# EAGLE library part DAC8814ADAPTER (library board)
Digital-to-Analog Converter on DIL28 adapter board. Based on components: ic-package.lbr/DIL28 element14/Texas Instruments_By_element14_Batch_1.lbr/DAC8814IBDBT
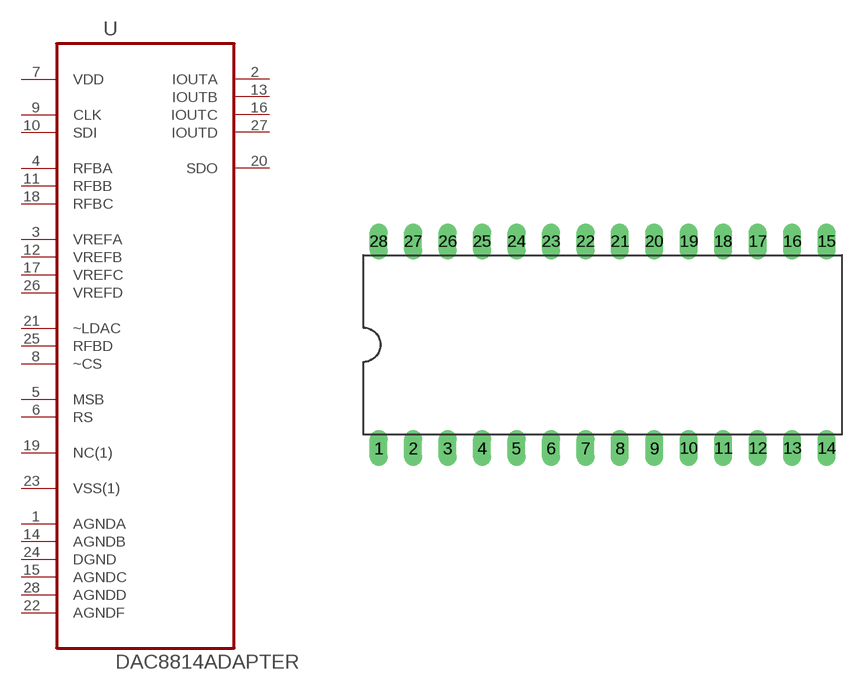
[diagram p0: symbol with the pads of DIL28-6; footprint DIL28-6]

Designator prefix U

## DAC8814ADAPTER  [DIL28-6]
1  AGNDA  pas
2  IOUTA  out
3  VREFA  in
4  RFBA  in
5  MSB  in
6  RS  in
7  VDD  pwr
8  ~CS  in
9  CLK  in
10  SDI  in
11  RFBB  in
12  VREFB  in
13  IOUTB  out
14  AGNDB  pas
15  AGNDC  pas
16  IOUTC  out
17  VREFC  in
18  RFBC  in
19  NC(1)  nc
20  SDO  out
21  ~LDAC  in
22  AGNDF  pas
23  VSS(1)  pas
24  DGND  pas
25  RFBD  in
26  VREFD  in
27  IOUTD  out
28  AGNDD  pas

## Footprint DIL28-6 (pad centres in mm)
Dual In Line Package 0.6 inch
drill 0.813 long: 1 -16.51,-7.62; 2 -13.97,-7.62; 3 -11.43,-7.62; 4 -8.89,-7.62; 5 -6.35,-7.62; 6 -3.81,-7.62; 7 -1.27,-7.62; 8 1.27,-7.62; 9 3.81,-7.62; 10 6.35,-7.62; 11 8.89,-7.62; 12 11.43,-7.62; 13 13.97,-7.62; 14 16.51,-7.62; 15 16.51,7.62; 16 13.97,7.62; 17 11.43,7.62; 18 8.89,7.62; 19 6.35,7.62; 20 3.81,7.62; 21 1.27,7.62; 22 -1.27,7.62; 23 -3.81,7.62; 24 -6.35,7.62; 25 -8.89,7.62; 26 -11.43,7.62; 27 -13.97,7.62; 28 -16.51,7.62